# EAGLE library part CLP-106-02-F-D-P (library mastrogippo)
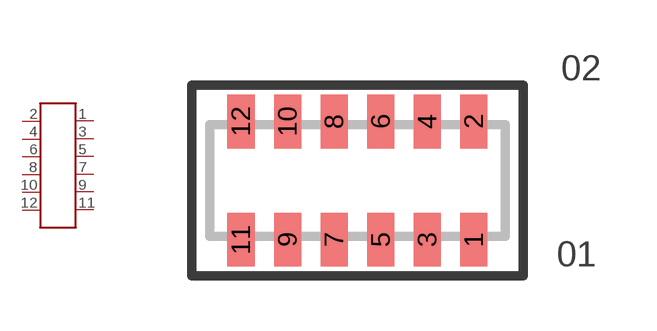
[diagram p18: symbol with the pads of CLP-106-02-X-D; footprint CLP-106-02-X-D]

Designator prefix -

## CLP-106-02-F-D-P  [CLP-106-02-X-D]
1  P$1
2  P$2
3  P$3
4  P$4
5  P$5
6  P$6
7  P$7
8  P$8
9  P$9
10  P$10
11  P$11
12  P$12

## Footprint CLP-106-02-X-D (pad centres in mm)
smd 0.74 x 1.47: 1 3.175,-1.615; 2 3.175,1.615; 3 1.905,-1.615; 4 1.905,1.615; 5 0.635,-1.615; 6 0.635,1.615; 7 -0.635,-1.615; 8 -0.635,1.615; 9 -1.905,-1.615; 10 -1.905,1.615; 11 -3.175,-1.615; 12 -3.175,1.615